# Altium schematic symbol library C0603C101J5GACTU.SchLib: 1 symbol
Pins are listed as number, name and electrical type; pins without a type are passive.

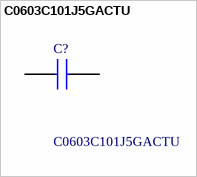
[diagram p0: symbol C0603C101J5GACTU]

## C0603C101J5GACTU
designator C?
SMD Comm C0G, Ceramic, 100 pF, 5%, 50 VDC, 125 VDC, 125C, -55C, C0G, SMD, MLCC, Ultra-Stable, Low Loss, Class I, 0.1 % , 100 GOhms, 3.7 mg, 0603, 1.6mm, 0.8mm, 0.8mm, 0.7mm, 0.35mm, 4000, 78  Weeks, 120; Manufacturer_Name: Yageo Group; Geometry.Height: 0.87mm; Mouser Part Number: 80-C0603C101J5G; Mouser Price/Stock: https://www.mouser.co.uk/ProductDetail/KEMET/C0603C101J5GACTU?qs=4pif%2FGVLGwfJAvnAsx%252B3rw%3D%3D; Manufacturer_Part_Number: C0603C101J5GACTU; Datasheet Link: https://content.kemet.com/datasheets/KEM_C1003_C0G_SMD.pdf
footprint CAPC1608X87N
pins: 1, 2